# Altium schematic symbol library Valve.SchLib: 24 symbols
Pins are listed as number, name and electrical type; pins without a type are passive.

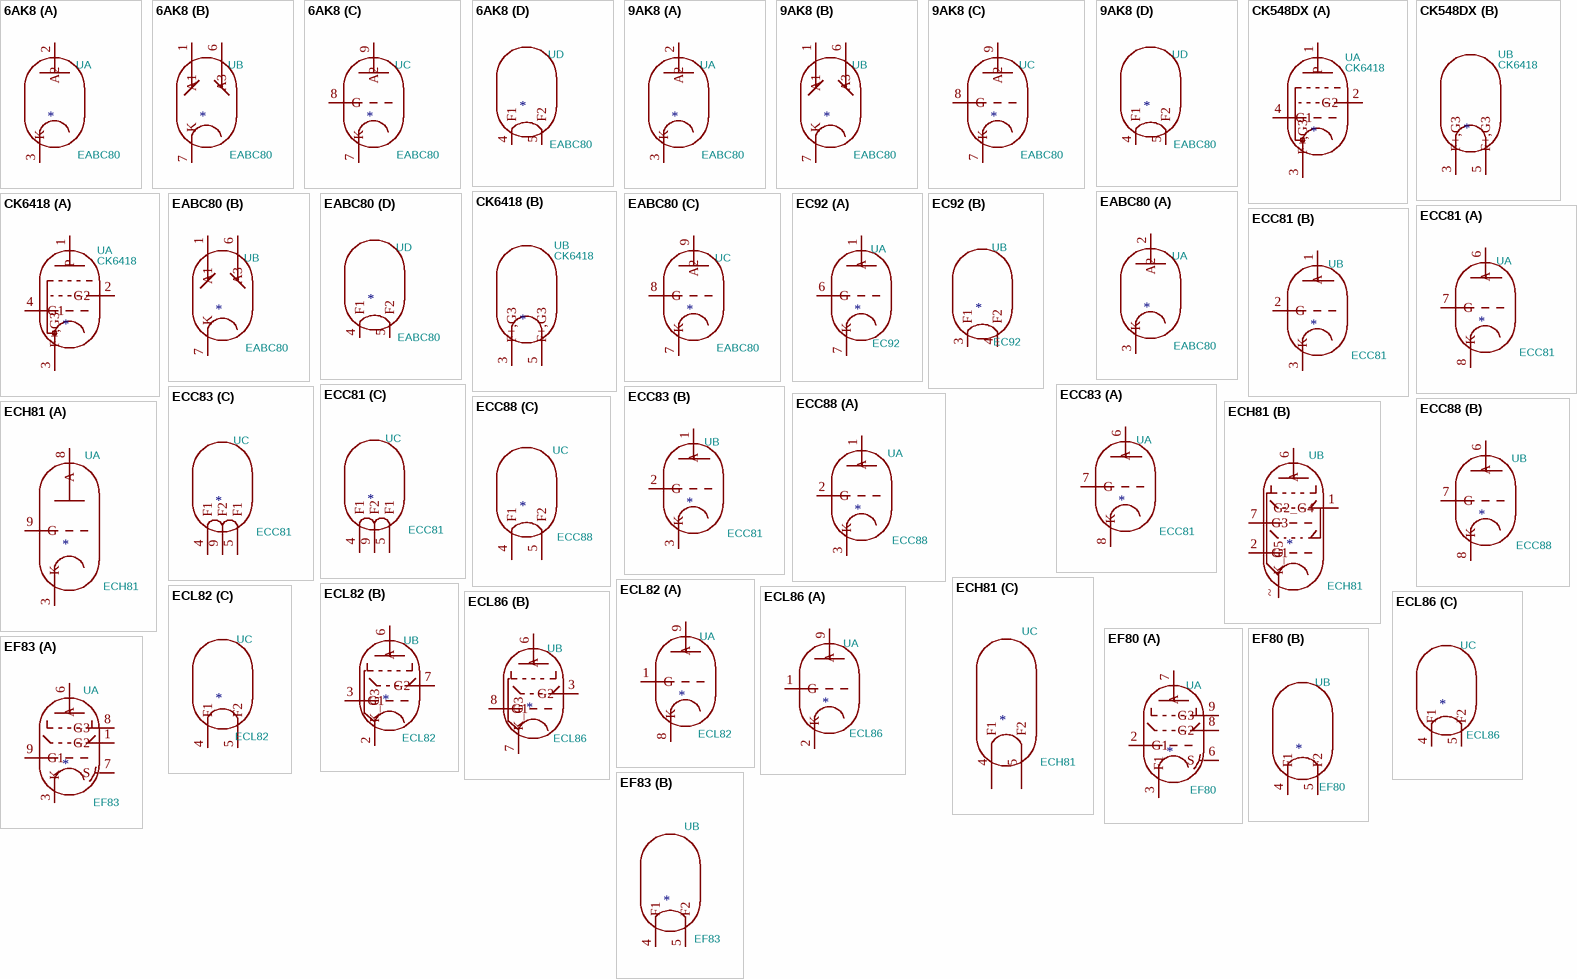
[diagram p0: symbols 6AK8 to EF83]

## 6AK8
designator U  value EABC80
Footprint: Valve:Valve_Noval_P
footprint Valve_Noval_P
part A pins: 2 A2, 3 K
part B pins: 1 A1, 6 A3, 7 K
part C pins: 7 K, 8 G, 9 A2
part D pins: 4 F1, 5 F2

## 9AK8
designator U  value EABC80
Footprint: Valve:Valve_Noval_P
footprint Valve_Noval_P
part A pins: 2 A2, 3 K
part B pins: 1 A1, 6 A3, 7 K
part C pins: 7 K, 8 G, 9 A2
part D pins: 4 F1, 5 F2

## CK548DX
designator U  value CK6418
Footprint: Valve:Valve_Mini_Pentode_Linear
footprint Valve_Mini_Pentode_Linear
part A pins: 1 P, 2 G2, 3 F+,G3, 4 G1
part B pins: 3 F+,G3, 5 F+,G3

## CK6418
designator U  value CK6418
Footprint: Valve:Valve_Mini_Pentode_Linear
footprint Valve_Mini_Pentode_Linear
part A pins: 1 P, 2 G2, 3 F+,G3, 4 G1
part B pins: 3 F+,G3, 5 F+,G3

## EABC80
designator U  value EABC80
Footprint: Valve:Valve_Noval_P
footprint Valve_Noval_P
part A pins: 2 A2, 3 K
part B pins: 1 A1, 6 A3, 7 K
part C pins: 7 K, 8 G, 9 A2
part D pins: 4 F1, 5 F2

## EC92
designator U  value EC92
Footprint: Valve:Valve_Mini_P
footprint Valve_Mini_P
part A pins: 1 A, 6 G, 7 K
part B pins: 3 F1, 4 F2

## ECC81
designator U  value ECC81
Footprint: Valve:Valve_Noval_P
footprint Valve_Noval_P
part A pins: 6 A, 7 G, 8 K
part B pins: 1 A, 2 G, 3 K
part C pins: 4 F1, 5 F1, 9 F2

## ECC83
designator U  value ECC81
Footprint: Valve:Valve_Noval_P
footprint Valve_Noval_P
part A pins: 6 A, 7 G, 8 K
part B pins: 1 A, 2 G, 3 K
part C pins: 4 F1, 5 F1, 9 F2

## ECC88
designator U  value ECC88
Footprint: Valve:Valve_Noval_P
footprint Valve_Noval_P
part A pins: 1 A, 2 G, 3 K
part B pins: 6 A, 7 G, 8 K
part C pins: 4 F1, 5 F2

## ECH81
designator U  value ECH81
Footprint: Valve:Valve_Noval_P
footprint Valve_Noval_P
part A pins: 3 K, 8 A, 9 G
part B pins: 1 G2_G4, 2 G1, 6 A, 7 G3, ~ K_G5
part C pins: 4 F1, 5 F2

## ECL82
designator U  value ECL82
Footprint: Valve:Valve_Noval_P
footprint Valve_Noval_P
part A pins: 1 G, 8 K, 9 A
part B pins: 2 K_G3, 3 G1, 6 A, 7 G2
part C pins: 4 F1, 5 F2

## ECL86
designator U  value ECL86
Footprint: Valve:Valve_Noval_P
footprint Valve_Noval_P
part A pins: 1 G, 2 K, 9 A
part B pins: 3 G2, 6 A, 7 K_G3, 8 G1
part C pins: 4 F1, 5 F2

## EF80
designator U  value EF80
Footprint: Valve:Valve_Noval_P
footprint Valve_Noval_P
part A pins: 2 G1, 3 F1, 6 S, 7 A, 8 G2, 9 G3
part B pins: 4 F1, 5 F2

## EF83
designator U  value EF83
Footprint: Valve:Valve_Noval_P
footprint Valve_Noval_P
part A pins: 1 G2, 3 K, 6 A, 7 S, 8 G3, 9 G1
part B pins: 4 F1, 5 F2

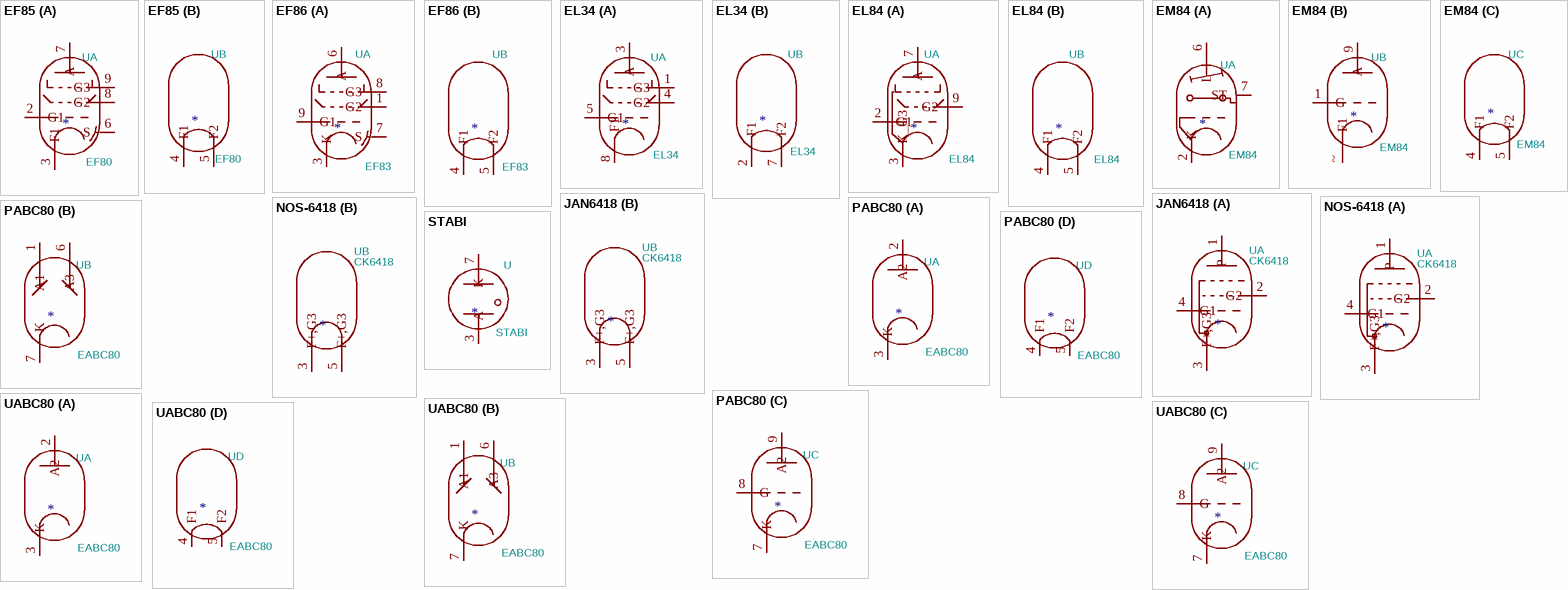
[diagram p1: symbols EF85 to UABC80]

## EF85
designator U  value EF80
Footprint: Valve:Valve_Noval_P
footprint Valve_Noval_P
part A pins: 2 G1, 3 F1, 6 S, 7 A, 8 G2, 9 G3
part B pins: 4 F1, 5 F2

## EF86
designator U  value EF83
Footprint: Valve:Valve_Noval_P
footprint Valve_Noval_P
part A pins: 1 G2, 3 K, 6 A, 7 S, 8 G3, 9 G1
part B pins: 4 F1, 5 F2

## EL34
designator U  value EL34
Footprint: Valve:Valve_Octal
footprint Valve_Octal
part A pins: 1 G3, 3 A, 4 G2, 5 G1, 8 F1
part B pins: 2 F1, 7 F2

## EL84
designator U  value EL84
Footprint: Valve:Valve_Noval_P
footprint Valve_Noval_P
part A pins: 2 G1, 3 K_G3, 7 A, 9 G2
part B pins: 4 F1, 5 F2

## EM84
designator U  value EM84
Footprint: Valve:Valve_Noval_P
footprint Valve_Noval_P
part A pins: 2 K, 6 L, 7 ST
part B pins: 1 G, 9 A, ~ F1
part C pins: 4 F1, 5 F2

## JAN6418
designator U  value CK6418
Footprint: Valve:Valve_Mini_Pentode_Linear
footprint Valve_Mini_Pentode_Linear
part A pins: 1 P, 2 G2, 3 F+,G3, 4 G1
part B pins: 3 F+,G3, 5 F+,G3

## NOS-6418
designator U  value CK6418
Footprint: Valve:Valve_Mini_Pentode_Linear
footprint Valve_Mini_Pentode_Linear
part A pins: 1 P, 2 G2, 3 F+,G3, 4 G1
part B pins: 3 F+,G3, 5 F+,G3

## PABC80
designator U  value EABC80
Footprint: Valve:Valve_Noval_P
footprint Valve_Noval_P
part A pins: 2 A2, 3 K
part B pins: 1 A1, 6 A3, 7 K
part C pins: 7 K, 8 G, 9 A2
part D pins: 4 F1, 5 F2

## STABI
designator U  value STABI
Footprint: Valve:Valve_Glimm
footprint Valve_Glimm
pins: 3 A, 7 K

## UABC80
designator U  value EABC80
Footprint: Valve:Valve_Noval_P
footprint Valve_Noval_P
part A pins: 2 A2, 3 K
part B pins: 1 A1, 6 A3, 7 K
part C pins: 7 K, 8 G, 9 A2
part D pins: 4 F1, 5 F2